# Altium footprint library BAT54JFILM.PcbLib: 1 footprints
Each footprint in its own frame and in the unit in brackets; x right, y up, seen from the top. Pads: shape width x height; smd on the part's side, far side on the other; paste and mask are expansions set on the pad; w line width, h text height; cw(c..) or ccw(c..) is an arc to the next point about the centre after c.
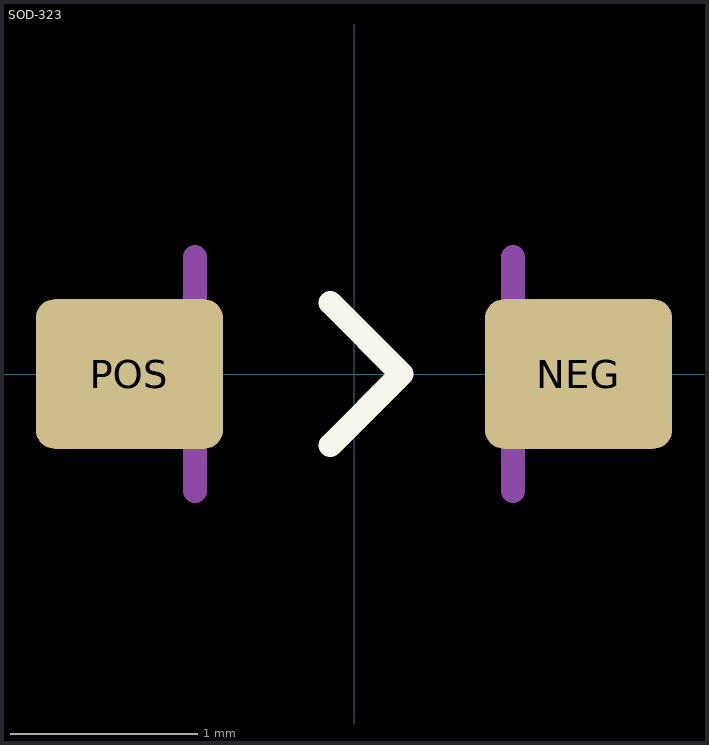
[diagram p0: the footprint, top view; thin cyan lines are the x and y axes]

## SOD-323 [mm]
pads (2):
  rrect25% 1x0.8 smd: NEG(1.2,0) POS(-1.2,0)
Top Overlay:
  lines w0.127: -0.127,-0.381 0.254,0 -0.127,0.381
Mechanical 13:
  lines w0.127: -0.85,-0.625 -0.85,0.625 ; 0.85,-0.625 0.85,0.625
3D body "step_temp.STEP": height 1.17, standoff 0, extent -1.25,-0.64 1.25,0.64